# Altium footprint library B2B-EH-A.A1.PcbLib: 1 footprints
Each footprint in its own frame and in the unit in brackets; x right, y up, seen from the top. Pads: shape width x height; smd on the part's side, far side on the other; paste and mask are expansions set on the pad; w line width, h text height; cw(c..) or ccw(c..) is an arc to the next point about the centre after c.
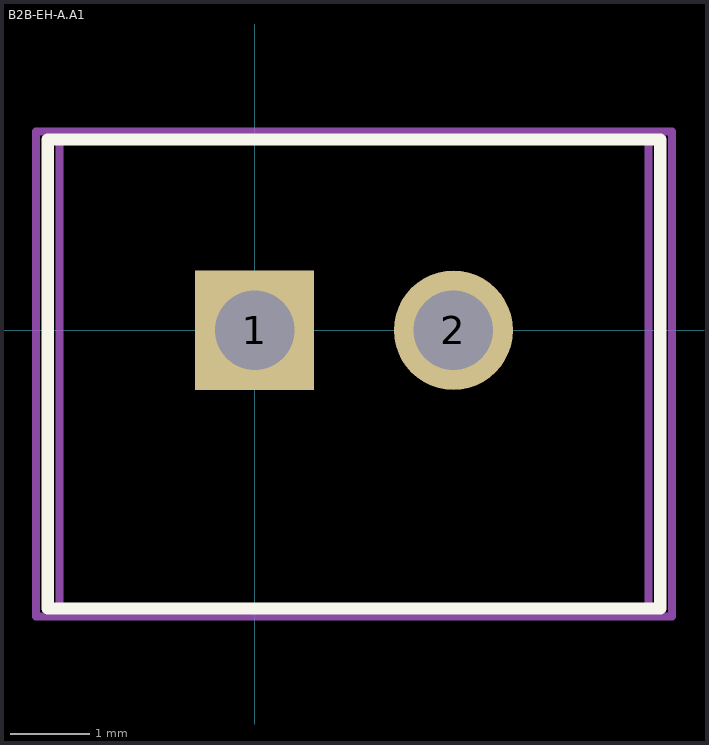
[diagram p0: the footprint, top view; thin cyan lines are the x and y axes]

## B2B-EH-A.A1 [mm]
height 6
pads (2):
  rect 1.5x1.5 hole 1: 1(0,0)
  round 1.5 hole 1: 2(2.5,0)
Top Overlay:
  lines w0.152: -2.6,-3.5 -2.6,2.4 5.1,2.4 5.1,-3.5 -2.6,-3.5
Mechanical 13:
  lines w0.1: -2.45,-3.5 4.95,-3.5 4.95,2.4 -2.45,2.4 -2.45,-3.5
Mechanical 15:
  lines w0.1: -2.75,-3.6 5.25,-3.6 5.25,2.5 -2.75,2.5 -2.75,-3.6
3D body: height 7, standoff -3.4, extent -2.43,-3.383 4.97,2.367